# EAGLE library part 71922-110LF (library FCI-tkr)
LATCH HEADER, RIGHT ANGLE
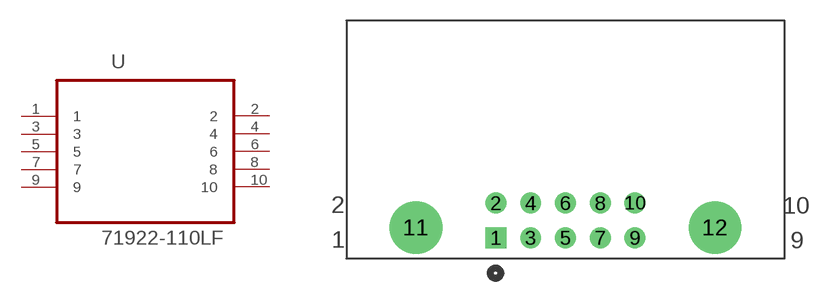
[diagram p35: symbol with the pads of FCI_71922-110LF; footprint FCI_71922-110LF]

Designator prefix U

## 71922-110LF (MPN: 71922-110LF; OC_FARNELL: 1103946; OC_NEWARK: 93K5023; PACKAGE: CON- 10 WAYS; SUPPLIER: FCI)  [FCI_71922-110LF]
1  1  pas
2  2  pas
3  3  pas
4  4  pas
5  5  pas
6  6  pas
7  7  pas
8  8  pas
9  9  pas
10  10  pas

## Footprint FCI_71922-110LF (pad centres in mm)
drill 1.016 square: 1 -10.16,-2.54
drill 1.016: 2 -10.16,0; 3 -7.62,-2.54; 4 -7.62,0; 5 -5.08,-2.54; 6 -5.08,0; 7 -2.54,-2.54; 8 -2.54,0; 9 0,-2.54; 10 0,0
drill 2.845: 11 -16.002,-1.803; 12 5.842,-1.803